# Altium footprint library TSSOP.PcbLib: 7 footprints
Each footprint in its own frame and in the unit in brackets; x right, y up, seen from the top. Pads: shape width x height; smd on the part's side, far side on the other; paste and mask are expansions set on the pad; w line width, h text height; cw(c..) or ccw(c..) is an arc to the next point about the centre after c.
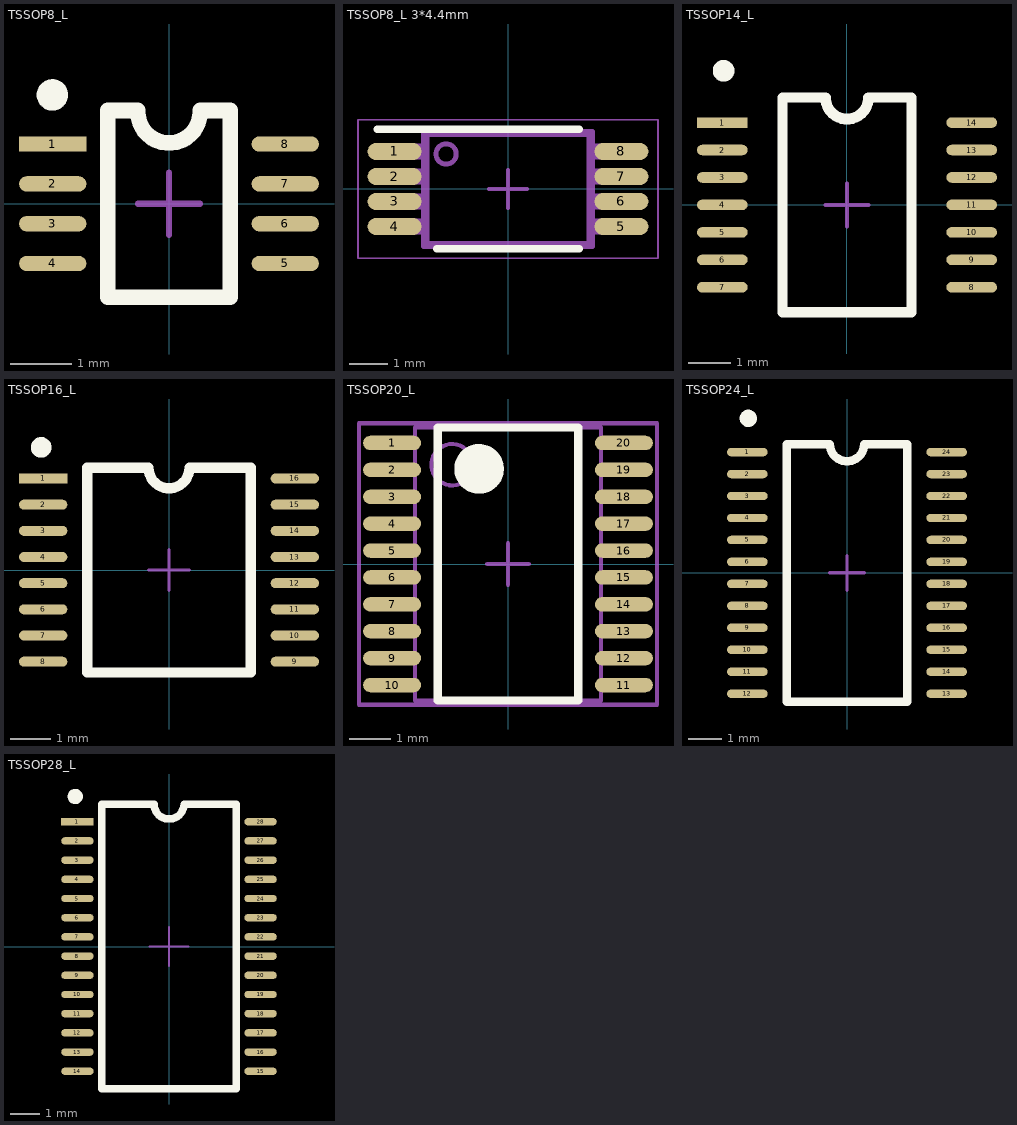
[diagram p0: the footprints below, top view; thin cyan lines are the x and y axes]

## TSSOP8_L [mm] "3*4.2*1mm（长宽高）"
pads (8):
  rect 1.1x0.25 smd: 1(-1.9,0.975)
  oval 1.1x0.25 smd: 2(-1.9,0.325) 3(-1.9,-0.325) 4(-1.9,-0.975) 5(1.9,-0.975) 6(1.9,-0.325) 7(1.9,0.325) 8(1.9,0.975)
Top Overlay:
  circle w0.254: c-1.905,1.778 r0.13
  lines w0.254: -0.508,1.5 ccw(c0,1.5) 0.508,1.5 ; -0.508,1.524 -1,1.524 -1,-1.524 1,-1.524 1,1.524 0.508,1.524
Mechanical 15:
  lines w0.1: -0.508,0 0.508,0 ; 0,-0.508 0,0.508
3D body "TSSOP8.STEP": height 1.03, standoff -0.02, extent -2.053,-1.5 2.053,1.5

## TSSOP8_L 3*4.4mm [mm]
pads (8):
  oval 1.4x0.45 smd: 1(-2.95,0.975) 2(-2.95,0.325) 3(-2.95,-0.325) 4(-2.95,-0.975) 5(2.95,-0.975) 6(2.95,-0.325) 7(2.95,0.325) 8(2.95,0.975)
Top Overlay:
  lines w0.2: -3.4,1.55 1.85,1.55 ; -1.85,-1.55 1.85,-1.55
Mechanical 5:
  lines w0.127: -2.2,-1.5 -2.2,-1.125 ; -2.2,-1.5 2.2,-1.5 ; -2.2,-1.5 -2.11,-1.41 ; -2.2,-1.125 -2.4,-1.125 -2.669,-1.125 -2.785,-1.125 -2.856,-1.125 -3.228,-1.125 -3.228,-0.825 -2.856,-0.825 -2.785,-0.825 -2.669,-0.825 -2.4,-0.825 -2.2,-0.825 ; -2.2,-1.125 -2.2,-0.825 ; -2.2,-0.825 -2.2,-0.475 ; -2.2,-0.475 -2.2,-0.175 ; -2.2,-0.475 -2.4,-0.475 -2.669,-0.475 -2.785,-0.475 -2.856,-0.475 -3.228,-0.475 -3.228,-0.175 -2.856,-0.175 -2.785,-0.175 -2.669,-0.175 -2.4,-0.175 -2.2,-0.175 ; -2.2,-0.175 -2.2,0.175 ; -2.2,0.175 -2.4,0.175 -2.669,0.175 -2.785,0.175 -2.856,0.175 -3.228,0.175 -3.228,0.475 -2.856,0.475 -2.785,0.475 -2.669,0.475 -2.4,0.475 -2.2,0.475 ; -2.2,0.175 -2.2,0.475 ; -2.2,0.475 -2.2,0.825 ; -2.2,0.825 -2.2,1.125 ; -2.2,0.825 -2.4,0.825 -2.669,0.825 -2.785,0.825 -2.856,0.825 -3.228,0.825 -3.228,1.125 -2.856,1.125 -2.785,1.125 -2.669,1.125 -2.4,1.125 -2.2,1.125 ; -2.2,1.125 -2.2,1.5 ; -2.2,1.5 2.2,1.5 ; -2.2,1.5 -2.11,1.41 ; -2.11,-1.41 2.11,-1.41 ; -2.11,-1.41 -2.11,1.41 ; -2.11,1.41 2.11,1.41 ; 2.11,-1.41 2.2,-1.5 ; 2.11,-1.41 2.11,1.41 ; 2.11,1.41 2.2,1.5 ; 2.2,-1.5 2.2,-1.125 ; 2.2,-1.125 2.4,-1.125 2.669,-1.125 2.785,-1.125 2.856,-1.125 3.228,-1.125 3.228,-0.825 2.856,-0.825 2.785,-0.825 2.669,-0.825 2.4,-0.825 2.2,-0.825 ; 2.2,-1.125 2.2,-0.825 ; 2.2,-0.825 2.2,-0.475 ; 2.2,-0.475 2.4,-0.475 2.669,-0.475 2.785,-0.475 2.856,-0.475 3.228,-0.475 3.228,-0.175 2.856,-0.175 2.785,-0.175 2.669,-0.175 2.4,-0.175 2.2,-0.175 ; 2.2,-0.475 2.2,-0.175 ; 2.2,-0.175 2.2,0.175 ; 2.2,0.175 2.2,0.475 ; 2.2,0.175 2.4,0.175 2.669,0.175 2.785,0.175 2.856,0.175 3.228,0.175 3.228,0.475 2.856,0.475 2.785,0.475 2.669,0.475 2.4,0.475 2.2,0.475 ; 2.2,0.475 2.2,0.825 ; 2.2,0.825 2.2,1.125 ; 2.2,0.825 2.4,0.825 2.669,0.825 2.785,0.825 2.856,0.825 3.228,0.825 3.228,1.125 2.856,1.125 2.785,1.125 2.669,1.125 2.4,1.125 2.2,1.125 ; 2.2,1.125 2.2,1.5 ; -1.61,0.646 ccw(c-1.61,0.91) -1.61,1.173 ccw(c-1.61,0.91) -1.61,0.646
Mechanical 15:
  lines w0.05: -3.9,-1.8 3.9,-1.8 3.9,1.8 -3.9,1.8 -3.9,-1.8
  lines w0.1: -0.5,0 0.5,0 ; 0,-0.5 0,0.5
3D body "PW0008A.stp": height 1.2, standoff 0, extent -3.208,-1.5 3.208,1.5

## TSSOP14_L [mm] "5*6.4*1mm（长宽高）"
pads (14):
  rect 1.2x0.25 smd: 1(-2.95,1.95)
  oval 1.2x0.25 smd: 2(-2.95,1.3) 3(-2.95,0.65) 4(-2.95,0) 5(-2.95,-0.65) 6(-2.95,-1.3) 7(-2.95,-1.95) 8(2.95,-1.95) 9(2.95,-1.3) 10(2.95,-0.65) 11(2.95,0) 12(2.95,0.65) 13(2.95,1.3) 14(2.95,1.95)
Top Overlay:
  circle w0.254: c-2.921,3.175 r0.13
  lines w0.24: -0.508,2.54 -1.524,2.54 -1.524,-2.54 1.524,-2.54 1.524,2.54 0.508,2.54
  lines w0.254: -0.508,2.54 ccw(c0,2.54) 0.508,2.54
Mechanical 15:
  lines w0.1: -0.508,0 0.508,0 ; 0,-0.508 0,0.508
3D body "TSSOP14.STEP": height 1.03, standoff -0.02, extent -3.203,-2.5 3.203,2.5

## TSSOP16_L [mm] "5*6.4*1mm（长宽高）"
pads (16):
  rect 1.2x0.25 smd: 1(-3.125,2.275)
  oval 1.2x0.25 smd: 2(-3.125,1.625) 3(-3.125,0.975) 4(-3.125,0.325) 5(-3.125,-0.325) 6(-3.125,-0.975) 7(-3.125,-1.625) 8(-3.125,-2.275) 9(3.125,-2.275) 10(3.125,-1.625) 11(3.125,-0.975) 12(3.125,-0.325) 13(3.125,0.325) 14(3.125,0.975) 15(3.125,1.625) 16(3.125,2.275)
Top Overlay:
  circle w0.254: c-3.175,3.048 r0.13
  lines w0.254: -2.032,-2.54 2.032,-2.54 2.032,2.54 0.508,2.54 cw(c0,2.54) -0.508,2.54 -2.032,2.54 -2.032,-2.54
Mechanical 15:
  lines w0.076: -0.508,0 0.508,0 ; 0,-0.508 0,0.508
3D body "TSSOP16.STEP": height 1.03, standoff -0.02, extent -3.203,-2.5 3.203,2.5

## TSSOP20_L [mm] "6.5*6.4*1（长宽高）"
height 1.2
pads (20):
  oval 1.4x0.35 smd: 1(-2.8,2.925) 2(-2.8,2.275) 3(-2.8,1.625) 4(-2.8,0.975) 5(-2.8,0.325) 6(-2.8,-0.325) 7(-2.8,-0.975) 8(-2.8,-1.625) 9(-2.8,-2.275) 10(-2.8,-2.925) 11(2.8,-2.925) 12(2.8,-2.275) 13(2.8,-1.625) 14(2.8,-0.975) 15(2.8,-0.325) 16(2.8,0.325) 17(2.8,0.975) 18(2.8,1.625) 19(2.8,2.275) 20(2.8,2.925)
Top Overlay:
  circle w0.6: c-0.7,2.3 r0.3
  lines w0.2: -1.7,-3.3 -1.7,3.3 1.7,3.3 1.7,-3.3 -1.7,-3.3
Mechanical 13:
  circle w0.1: c-1.35,2.4 r0.5
  lines w0.1: -2.25,-3.3 -2.25,3.3 2.25,3.3 2.25,-3.3 -2.25,-3.3
Mechanical 15:
  lines w0.1: -0.5,0 0.5,0 ; 0,-0.5 0,0.5 ; -3.6,-3.4 -3.6,3.4 3.6,3.4 3.6,-3.4 -3.6,-3.4
3D body "TSSOP20.STEP": height 1.03, standoff -0.02, extent -3.203,-3.25 3.203,3.25

## TSSOP24_L [mm] "7.8*6.4*1mm（长宽高）"
pads (24):
  oval 1.2x0.25 smd: 1(-2.95,3.575) 2(-2.95,2.925) 3(-2.95,2.275) 4(-2.95,1.625) 5(-2.95,0.975) 6(-2.95,0.325) 7(-2.95,-0.325) 8(-2.95,-0.975) 9(-2.95,-1.625) 10(-2.95,-2.275) 11(-2.95,-2.925) 12(-2.95,-3.575) 13(2.95,-3.575) 14(2.95,-2.925) 15(2.95,-2.275) 16(2.95,-1.625) 17(2.95,-0.975) 18(2.95,-0.325) 19(2.95,0.325) 20(2.95,0.975) 21(2.95,1.625) 22(2.95,2.275) 23(2.95,2.925) 24(2.95,3.575)
Top Overlay:
  circle w0.254: c-2.921,4.572 r0.13
  lines w0.254: -1.778,-3.81 -1.778,3.81 -0.508,3.81 ccw(c0,3.81) 0.508,3.81 1.778,3.81 1.778,-3.81 -1.778,-3.81
Mechanical 15:
  lines w0.1: -0.508,0 0.508,0 ; 0,-0.508 0,0.508
3D body "TSSOP24.STEP": height 1.03, standoff -0.02, extent -3.203,-3.9 3.203,3.9

## TSSOP28_L [mm] "9.8*6.4*1mm（长宽高）"
pads (28):
  rect 1.1x0.25 smd: 1(-3.1,4.225)
  oval 1.1x0.25 smd: 2(-3.1,3.575) 3(-3.1,2.925) 4(-3.1,2.275) 5(-3.1,1.625) 6(-3.1,0.975) 7(-3.1,0.325) 8(-3.1,-0.325) 9(-3.1,-0.975) 10(-3.1,-1.625) 11(-3.1,-2.275) 12(-3.1,-2.925) 13(-3.1,-3.575) 14(-3.1,-4.225) 15(3.1,-4.225) 16(3.1,-3.575) 17(3.1,-2.925) 18(3.1,-2.275) 19(3.1,-1.625) 20(3.1,-0.975) 21(3.1,-0.325) 22(3.1,0.325) 23(3.1,0.975) 24(3.1,1.625) 25(3.1,2.275) 26(3.1,2.925) 27(3.1,3.575) 28(3.1,4.225)
Top Overlay:
  circle w0.254: c-3.175,5.08 r0.13
  lines w0.254: -2.286,-4.826 -2.286,4.826 -0.508,4.826 ccw(c0,4.826) 0.508,4.826 2.286,4.826 2.286,-4.826 -2.286,-4.826
Mechanical 15:
  lines w0.076: -0.65,0 0.65,0 ; 0,-0.65 0,0.65
3D body "TSSOP28.STEP": height 1.03, standoff -0.02, extent -3.203,-4.9 3.203,4.9